# Altium integrated library ON Semi Signal Management Modems & Transceivers.IntLib: 97 symbols (part 3 of 5)
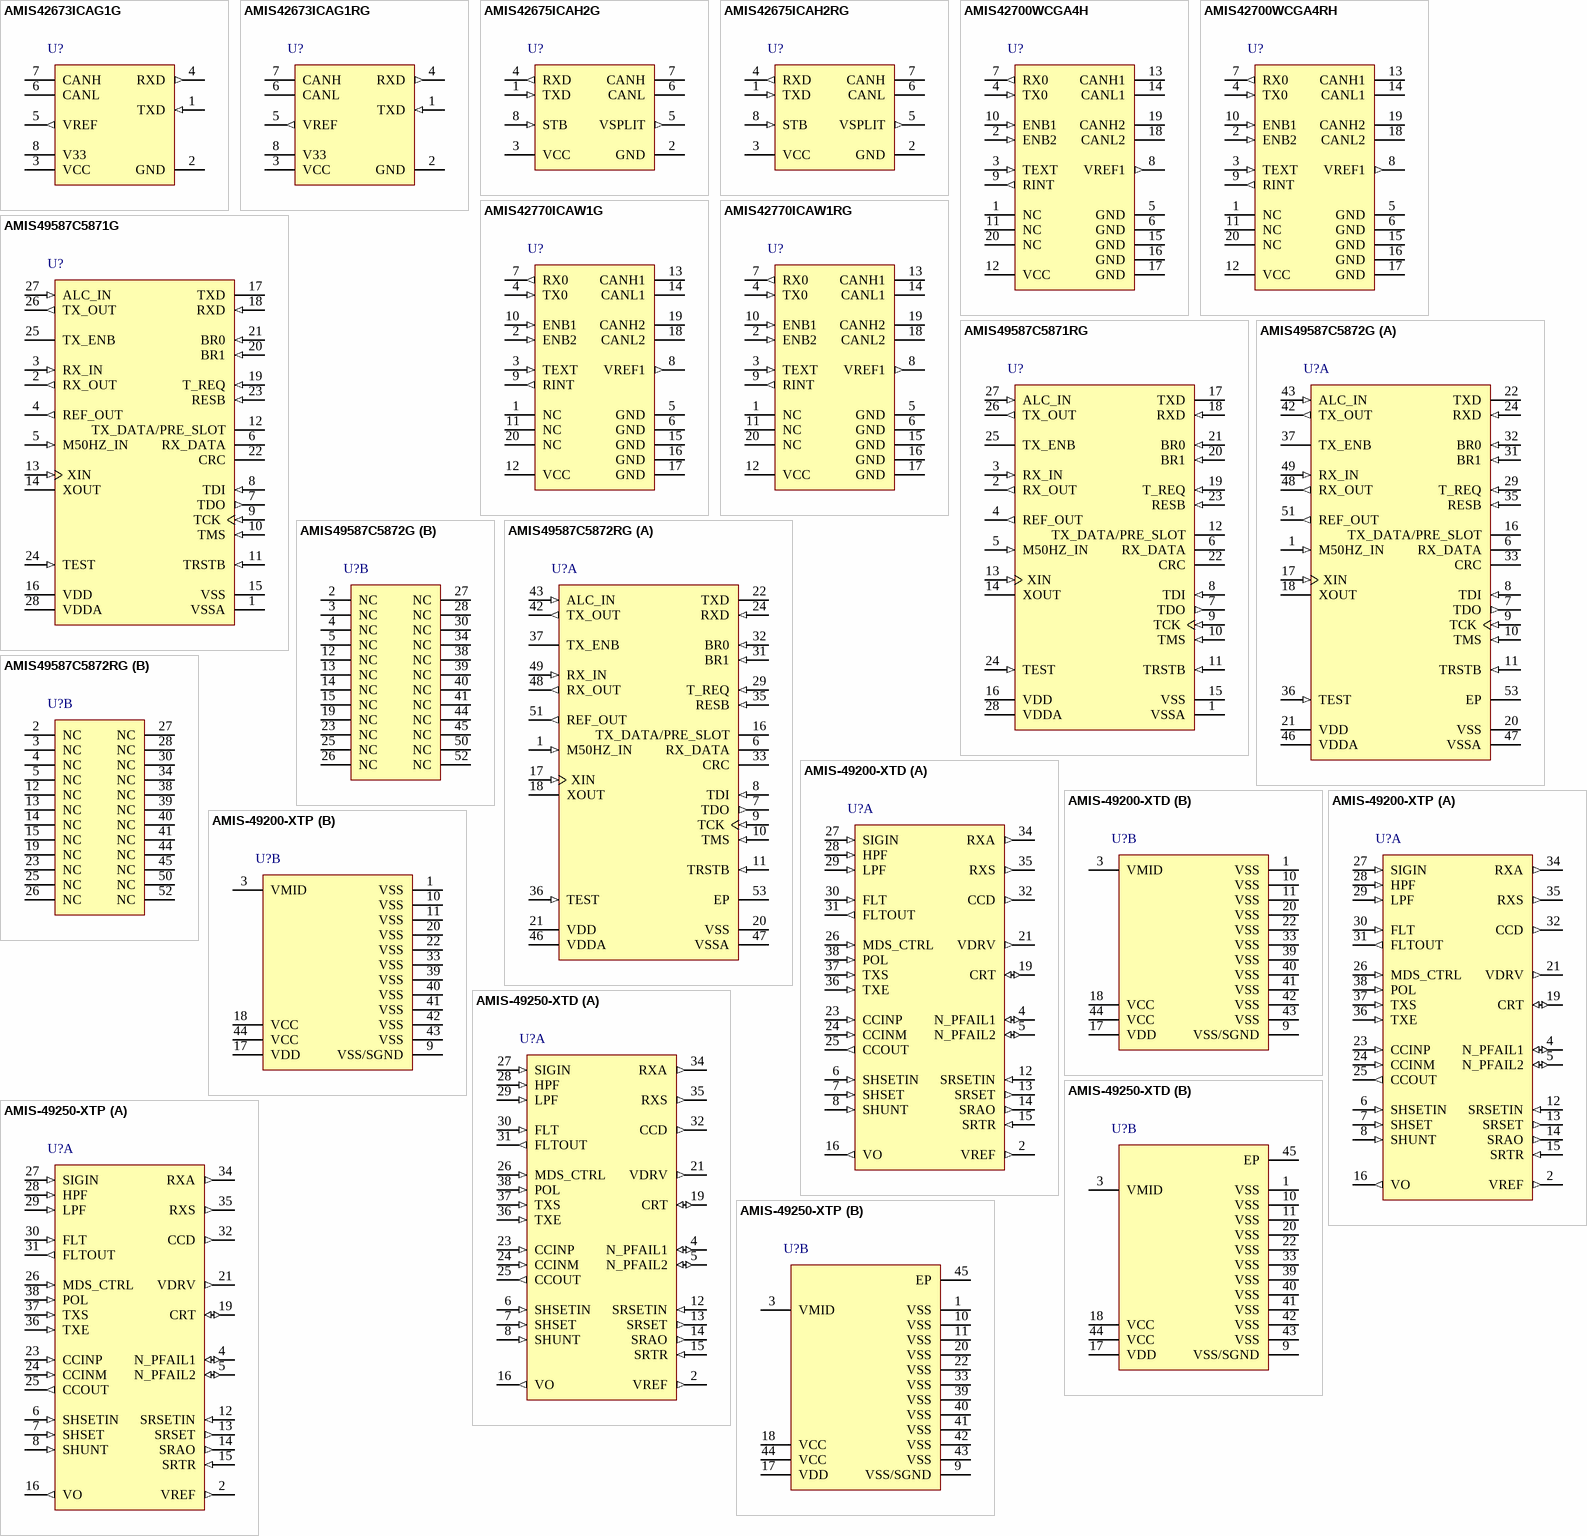
[diagram p6: symbols AMIS42673ICAG1G to AMIS-49250-XTP]

## AMIS-49250-XTD
designator U?
Fieldbus Physical Layer Medium Access Unit (MAU), 4.75 to 6.2 V, -40 to 85 degC, 44-Pin NQFP, Pb-Free, Tray; Manufacturer: On Semiconductor; PartNumber: AMIS-49250-XTD; Data Rate: 31.25 kbps; Number of Drivers: 1; VCC Max (V): 6.2; VCC Min (V): 4.75; DatasheetVersion: Rev. 7; PackageVersion: Rev. A, 11/2009; PackageReference: NQFP-44; PackageDescription: 44-Pin Quad Flat Package, Body 7 x 7 mm, Pitch 0.5 mm; Supplier 1: Digi-Key; Supplier Part Number 1: AMIS-49250-XTDOS-ND; Supplier 2: Mouser; Supplier Part Number 2: 863-AMIS-49250-XTD; Data Transmission Standard: MAU; Number of Receivers: 1; Packing: Tray; RoHS: TRUE; Mounting Technology: Surface Mount; ComponentLink1Description: Manufacturer URL; ComponentLink1URL: http://www.onsemi.com/; ComponentLink2Description: Datasheet; ComponentLink2URL: http://www.onsemi.com/pub_link/Collateral/AMIS-492X0-D.PDF; ComponentLink3Description: Package Specification; ComponentLink3URL: http://www.onsemi.com/pub_link/Collateral/560BD.PDF
footprint ONSC-NQFP-44-49250_N (QFN, 44-Leads, Body 7x7mm, Pitch 0.5mm, Thermal Pad 5.5x5.5mm, IPC Medium Density)
footprint ONSC-NQFP-44-49250_L (QFN, 44-Leads, Body 7x7mm, Pitch 0.5mm, Thermal Pad 5.5x5.5mm, IPC High Density)
footprint ONSC-NQFP-44-49250_M (QFN, 44-Leads, Body 7x7mm, Pitch 0.5mm, Thermal Pad 5.5x5.5mm, IPC Low Density)
part A pins: 2 VREF (out) "Internal bandgap voltage (1.18V)", 4 N_PFAIL1 (io) "Power fail alarm at VCC input. This pin is an open-drain output of negative logic.", 5 N_PFAIL2 (io) "Power fail alarm at VDD input. This pin is an open-drain output of negative logic.", 6 SHSETIN (in) "Feedback (non-inverting) input for the shunt regulator", 7 SHSET (in) "Divided voltage of VCC input. Feeding this voltage to SHSETIN pin results in 5V voltage at VCC.", 8 SHUNT (in) "Control pin of the shunt regulator. Its sink current (25mA max) is controlled so that the voltage at SHSETIN is equal to VREF (1.18V).", 12 SRSETIN (in) "Feedback (inverting) input for the series regulator. The series regulator controls its output (SRAO) to make this input voltage is equal to VREF (1.18V).", 13 SRSET (out) "Divided voltage of VO output. Feeding this voltage into SRSETIN pin results in 3V at VO pin.", 14 SRAO (out) "Output pin of an operational amplifier for the series regulator", 15 SRTR (in) "Gate of a PMOS transistor for the series regulator", 16 VO (out) "Output pin of the series regulator (20mA max)", 19 CRT (io) "Current integration to limit output slew rate", 21 VDRV (out) "Output of an operational amplifier for slew rate control. This signal can be fed to current driver.", 23 CCINP (in) "Non-inverting input of an operational amplifier for transmission current driver", 24 CCINM (in) "Inverting input of an operational amplifier for transmission current driver", 25 CCOUT (out) "Output of an operational amplifier for transmission current driver", 26 MDS_CTRL (in) "For POL = VDD MDS_CTRL should = VSS.For POL = VSS MDS_CTRL can be tied to VDD or used as a not reset to control when transmit communications will be enabled", 27 SIGIN (in) "Input pin of the band-pass filter. This pin is connected to VMID bias level with 270K resistor.", 28 HPF (in) "Feedback signal of high-pass filter. This pin is connected to the output of an op-amp for high pass filter with 75K resistor.", 29 LPF (in) "Non-inverting input of an operational amplifier for the low-pass filter", 30 FLT (in) "Input pin of low-pass filter for feedback. This pin is connected to the output of the high-pass filter through 20kohm and the non-inverting input of the low-pass filter through 54kohm resisters.", 31 FLTOUT (out) "Output of the operational amplifier for the low-pass filter. This signal is internally connected to non-inverting input to form a voltage-follower.", 32 CCD (out) "Current integration (for carrier detect circuit)", 34 RXA (out) "MDS-MAU interface signal for received signal activity. This pin is a push-pull output.", 35 RXS (out) "MDS-MAU interface signal for received signal. This pin is a push-pull output.", 36 TXE (in) "MDS-MAU interface signal for enable signal transmission (Schmitt Trigger input)", 37 TXS (in) "MDS-MAU interface signal for signal to be transmitted (Schmitt Trigger input)", 38 POL (in) "Selects polarity of TxE input. When this pin is connected to GND, TxE is active high. When this pin is connected to VDD, TxE is active low."
part B pins: 1 VSS (power) "Connect to ground", 3 VMID (power) "2V bias voltage for AC signals", 9 VSS/SGND (power) "The current absorbed by SHUNT pin (25mA max) is fed to this pin, which must be connected to the ground level", 10 VSS (power) "Ground", 11 VSS (power) "Ground", 17 VDD (power) "Supply voltage input for digital block", 18 VCC (power) "Analog supply voltage", 20 VSS (power) "Ground", 22 VSS (power) "Ground", 33 VSS (power) "Ground", 39 VSS (power) "Ground", 40 VSS (power) "Ground", 41 VSS (power) "Connect to ground", 42 VSS (power) "Connect to ground", 43 VSS (power) "Connect to ground", 44 VCC (power) "Analog supply voltage", 45 EP

## AMIS-49250-XTP
designator U?
Fieldbus Physical Layer Medium Access Unit (MAU), 4.75 to 6.2 V, -40 to 85 degC, 44-Pin NQFP, Pb-Free, Tape and Reel; Manufacturer: On Semiconductor; PartNumber: AMIS-49250-XTP; Data Rate: 31.25 kbps; Number of Drivers: 1; VCC Max (V): 6.2; VCC Min (V): 4.75; DatasheetVersion: Rev. 7; PackageVersion: Rev. A, 11/2009; PackageReference: NQFP-44; PackageDescription: 44-Pin Quad Flat Package, Body 7 x 7 mm, Pitch 0.5 mm; Supplier 1: Digi-Key; Supplier Part Number 1: AMIS-49250-XTP-ND; Supplier 2: Mouser; Supplier Part Number 2: 863-AMIS-49250-XTP; Data Transmission Standard: MAU; Number of Receivers: 1; Packing: Tape and Reel; RoHS: TRUE; Mounting Technology: Surface Mount; ComponentLink1Description: Manufacturer URL; ComponentLink1URL: http://www.onsemi.com/; ComponentLink2Description: Datasheet; ComponentLink2URL: http://www.onsemi.com/pub_link/Collateral/AMIS-492X0-D.PDF; ComponentLink3Description: Package Specification; ComponentLink3URL: http://www.onsemi.com/pub_link/Collateral/560BD.PDF
footprint ONSC-NQFP-44-49250_N (QFN, 44-Leads, Body 7x7mm, Pitch 0.5mm, Thermal Pad 5.5x5.5mm, IPC Medium Density)
footprint ONSC-NQFP-44-49250_L (QFN, 44-Leads, Body 7x7mm, Pitch 0.5mm, Thermal Pad 5.5x5.5mm, IPC High Density)
footprint ONSC-NQFP-44-49250_M (QFN, 44-Leads, Body 7x7mm, Pitch 0.5mm, Thermal Pad 5.5x5.5mm, IPC Low Density)
part A pins: 2 VREF (out) "Internal bandgap voltage (1.18V)", 4 N_PFAIL1 (io) "Power fail alarm at VCC input. This pin is an open-drain output of negative logic.", 5 N_PFAIL2 (io) "Power fail alarm at VDD input. This pin is an open-drain output of negative logic.", 6 SHSETIN (in) "Feedback (non-inverting) input for the shunt regulator", 7 SHSET (in) "Divided voltage of VCC input. Feeding this voltage to SHSETIN pin results in 5V voltage at VCC.", 8 SHUNT (in) "Control pin of the shunt regulator. Its sink current (25mA max) is controlled so that the voltage at SHSETIN is equal to VREF (1.18V).", 12 SRSETIN (in) "Feedback (inverting) input for the series regulator. The series regulator controls its output (SRAO) to make this input voltage is equal to VREF (1.18V).", 13 SRSET (out) "Divided voltage of VO output. Feeding this voltage into SRSETIN pin results in 3V at VO pin.", 14 SRAO (out) "Output pin of an operational amplifier for the series regulator", 15 SRTR (in) "Gate of a PMOS transistor for the series regulator", 16 VO (out) "Output pin of the series regulator (20mA max)", 19 CRT (io) "Current integration to limit output slew rate", 21 VDRV (out) "Output of an operational amplifier for slew rate control. This signal can be fed to current driver.", 23 CCINP (in) "Non-inverting input of an operational amplifier for transmission current driver", 24 CCINM (in) "Inverting input of an operational amplifier for transmission current driver", 25 CCOUT (out) "Output of an operational amplifier for transmission current driver", 26 MDS_CTRL (in) "For POL = VDD MDS_CTRL should = VSS.For POL = VSS MDS_CTRL can be tied to VDD or used as a not reset to control when transmit communications will be enabled", 27 SIGIN (in) "Input pin of the band-pass filter. This pin is connected to VMID bias level with 270K resistor.", 28 HPF (in) "Feedback signal of high-pass filter. This pin is connected to the output of an op-amp for high pass filter with 75K resistor.", 29 LPF (in) "Non-inverting input of an operational amplifier for the low-pass filter", 30 FLT (in) "Input pin of low-pass filter for feedback. This pin is connected to the output of the high-pass filter through 20kohm and the non-inverting input of the low-pass filter through 54kohm resisters.", 31 FLTOUT (out) "Output of the operational amplifier for the low-pass filter. This signal is internally connected to non-inverting input to form a voltage-follower.", 32 CCD (out) "Current integration (for carrier detect circuit)", 34 RXA (out) "MDS-MAU interface signal for received signal activity. This pin is a push-pull output.", 35 RXS (out) "MDS-MAU interface signal for received signal. This pin is a push-pull output.", 36 TXE (in) "MDS-MAU interface signal for enable signal transmission (Schmitt Trigger input)", 37 TXS (in) "MDS-MAU interface signal for signal to be transmitted (Schmitt Trigger input)", 38 POL (in) "Selects polarity of TxE input. When this pin is connected to GND, TxE is active high. When this pin is connected to VDD, TxE is active low."
part B pins: 1 VSS (power) "Connect to ground", 3 VMID (power) "2V bias voltage for AC signals", 9 VSS/SGND (power) "The current absorbed by SHUNT pin (25mA max) is fed to this pin, which must be connected to the ground level", 10 VSS (power) "Ground", 11 VSS (power) "Ground", 17 VDD (power) "Supply voltage input for digital block", 18 VCC (power) "Analog supply voltage", 20 VSS (power) "Ground", 22 VSS (power) "Ground", 33 VSS (power) "Ground", 39 VSS (power) "Ground", 40 VSS (power) "Ground", 41 VSS (power) "Connect to ground", 42 VSS (power) "Connect to ground", 43 VSS (power) "Connect to ground", 44 VCC (power) "Analog supply voltage", 45 EP

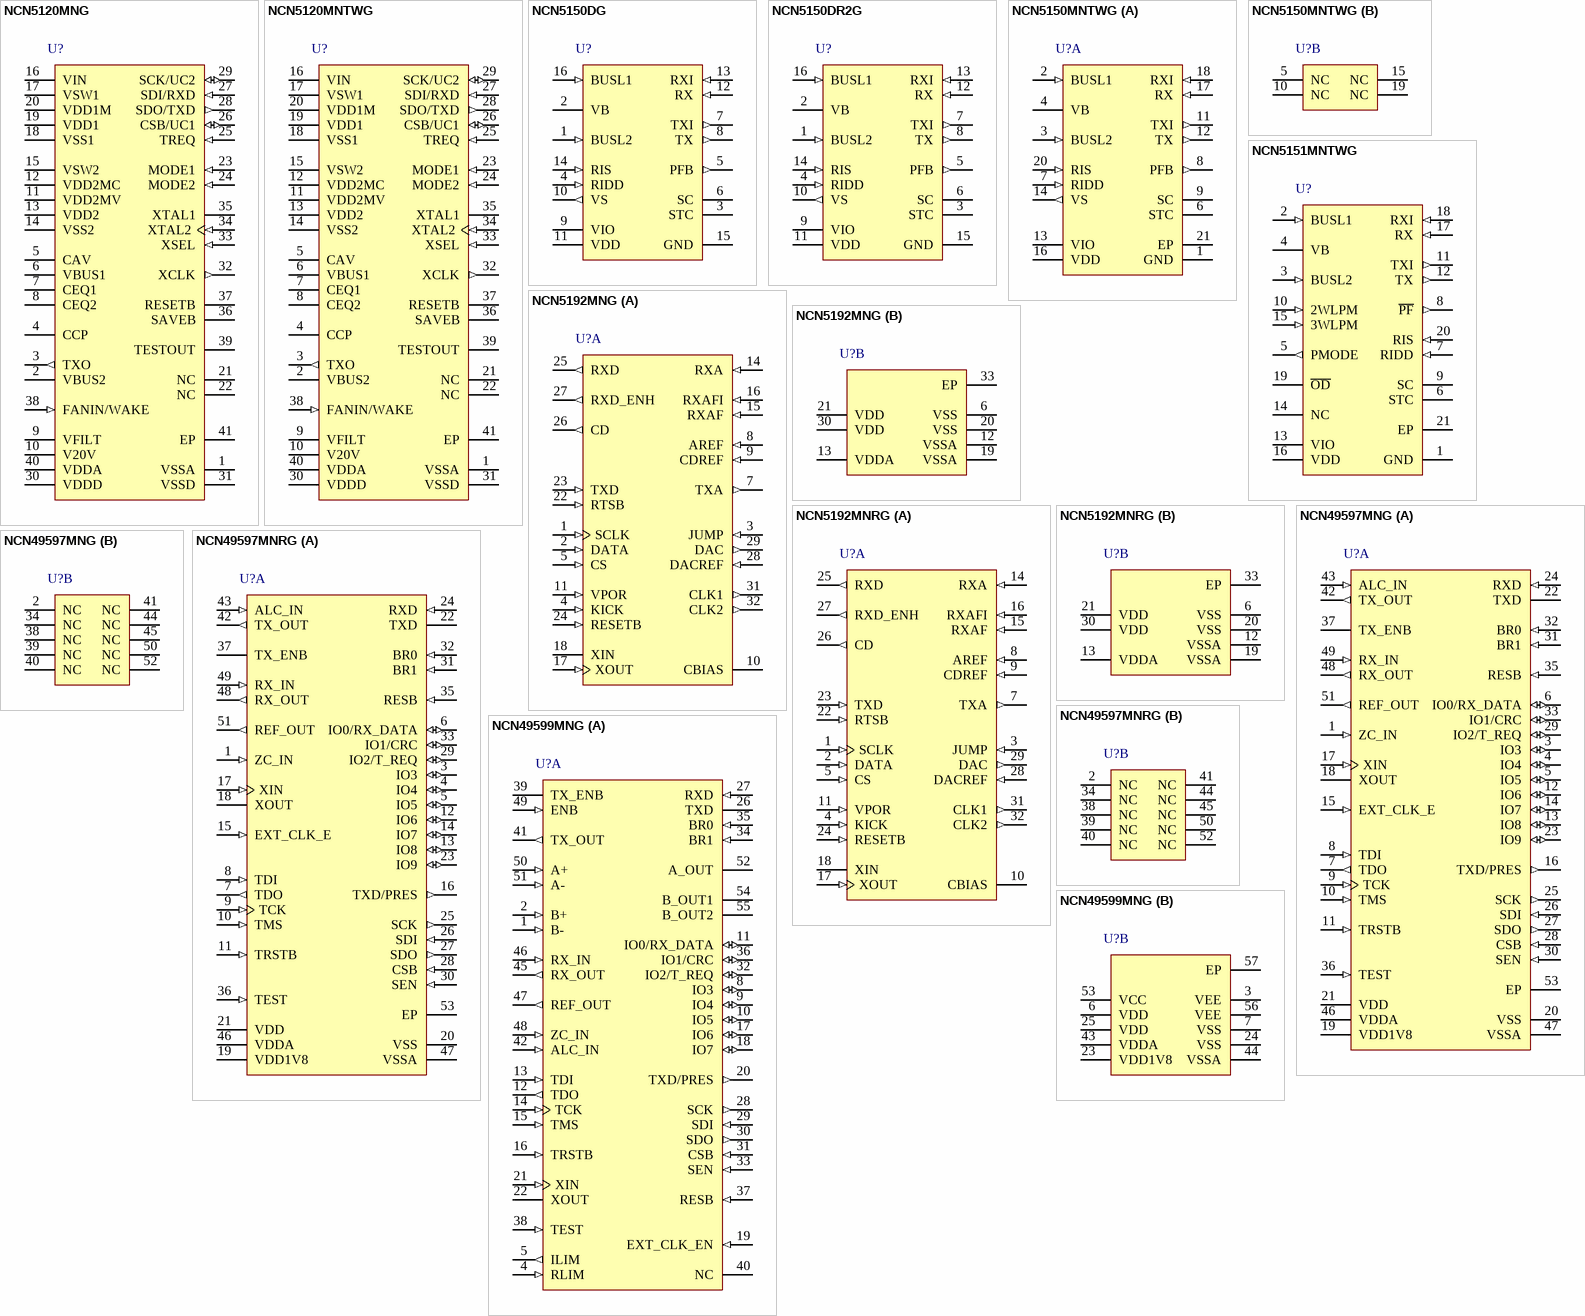
[diagram p2: symbols NCN5120MNG to NCN49599MNG]

## NCN5120MNG
designator U?
Transceiver for KNX Twisted Pair Networks, 3.13 to 3.47 V, -25 to 85 degC, 40-Pin QFN, Pb-Free, Tube; Manufacturer: On Semiconductor; PartNumber: NCN5120MNG; Data Rate: 9600 baud; Number of Drivers: 1; VCC Max (V): 3.47; VCC Min (V): 3.13; DatasheetVersion: Rev. 4; PackageVersion: Rev. O, 07/2008; PackageReference: QFN-40-485AU-01; PackageDescription: 40-Pin Quad Flat No-Lead, Body 6 x 6 mm, Pitch 0.5 mm; Supplier 1: Newark; Supplier Part Number 1: 53W8401; Supplier 2: Mouser; Supplier Part Number 2: 863-NCN5120MNG; Data Transmission Standard: KNX; Number of Receivers: 1; Packing: Tube; RoHS: TRUE; Mounting Technology: Surface Mount; ComponentLink1Description: Manufacturer URL; ComponentLink1URL: http://www.onsemi.com/; ComponentLink2Description: Datasheet; ComponentLink2URL: http://www.onsemi.com/pub_link/Collateral/NCN5120-D.PDF; ComponentLink3Description: Package Specification; ComponentLink3URL: http://www.onsemi.com/pub_link/Collateral/485AU.PDF
footprint ONSC-QFN-40-485AU-01_V (QFN, 40-Leads, Body 6x6mm, Pitch 0.5mm, Thermal Pad 3.32x3.32mm)
pins: 1 VSSA (power) "Analog Supply Voltage Ground", 2 VBUS2 (power) "Ground for KNX Transmitter", 3 TXO (out) "KNX Transmitter Output", 4 CCP "AC coupling external capacitor connection", 5 CAV "Capacitor connection to average bus DC voltage", 6 VBUS1 (power) "KNX power supply input", 7 CEQ1 "Capacitor connection 1 for defining equalization pulse", 8 CEQ2 "Capacitor connection 2 for defining equalization pulse", 9 VFILT (power) "Filtered bus voltage", 10 V20V (power) "20V supply output", 11 VDD2MV (power) "Voltage monitor of Voltage Regulator 2", 12 VDD2MC (power) "Current monitor input 1 of Voltage Regulator 2", 13 VDD2 (power) "Current monitor input 2 of Voltage Regulator 2", 14 VSS2 (power) "Voltage Regulator 2 Ground", 15 VSW2 (power) "Switch output of Voltage Regulator 2", 16 VIN (power) "Voltage Regulator 1 and 2 Power Supply Input", 17 VSW1 (power) "Switch output of Voltage Regulator 1", 18 VSS1 (power) "Voltage Regulator 1 Ground", 19 VDD1 (power) "Current Input 2 and Voltage Monitor Input of Voltage Regulator 1", 20 VDD1M (power) "Current Monitor Input 1 of Voltage Monitor 1", 21 NC "Not connected (do not connect)", 22 NC "Not connected (do not connect)", 23 MODE1 (in) "Mode Selection Input 1", 24 MODE2 (in) "Mode Selection Input 2", 25 TREQ (in) "Transmit Request Input", 26 CSB/UC1 (io) "Chip Select Output (SPI) or Configuration Input (UART)", 27 SDI/RXD (in) "Serial Data Input (SPI) or Receive Input (UART)", 28 SDO/TXD (out) "Serial Data Output (SPI) or Transmit Output (UART)", 29 SCK/UC2 (io) "Serial Clock Output (SPI) or Configuration Input (UART)", 30 VDDD (power) "Digital Supply Voltage Input", 31 VSSD (power) "Digital Supply Voltage Ground", 32 XCLK (out) "Oscillator Clock Output", 33 XSEL (in) "Clock Selection (Quartz or Digital Clock)", 34 XTAL2 (in) "Clock Generator Output (Quartz) or Input (Digital Clock)", 35 XTAL1 "Clock Generator Input (Quartz)", 36 SAVEB (oc) "Save Signal (open drain with pull?up)", 37 RESETB (oc) "Reset Signal (open drain with pull?up)", 38 FANIN/WAKE (in) "Fan?In and Wake?Up Input", 39 TESTOUT "Test Output (do not connect)", 40 VDDA (power) "Analog Supply Voltage Input", 41 EP (power)

## NCN5120MNTWG
designator U?
Transceiver for KNX Twisted Pair Networks, 3.13 to 3.47 V, -25 to 85 degC, 40-Pin QFN, Pb-Free, Tape and Reel; Manufacturer: On Semiconductor; PartNumber: NCN5120MNTWG; Data Rate: 9600 baud; Number of Drivers: 1; VCC Max (V): 3.47; VCC Min (V): 3.13; DatasheetVersion: Rev. 4; PackageVersion: Rev. O, 07/2008; PackageReference: QFN-40-485AU-01; PackageDescription: 40-Pin Quad Flat No-Lead, Body 6 x 6 mm, Pitch 0.5 mm; Supplier 1: Newark; Supplier Part Number 1: 53W8402; Supplier 2: Mouser; Supplier Part Number 2: 863-NCN5120MNTWG; Data Transmission Standard: KNX; Number of Receivers: 1; Packing: Tape and Reel; RoHS: TRUE; Mounting Technology: Surface Mount; ComponentLink1Description: Manufacturer URL; ComponentLink1URL: http://www.onsemi.com/; ComponentLink2Description: Datasheet; ComponentLink2URL: http://www.onsemi.com/pub_link/Collateral/NCN5120-D.PDF; ComponentLink3Description: Package Specification; ComponentLink3URL: http://www.onsemi.com/pub_link/Collateral/485AU.PDF
footprint ONSC-QFN-40-485AU-01_V (QFN, 40-Leads, Body 6x6mm, Pitch 0.5mm, Thermal Pad 3.32x3.32mm)
pins: 1 VSSA (power) "Analog Supply Voltage Ground", 2 VBUS2 (power) "Ground for KNX Transmitter", 3 TXO (out) "KNX Transmitter Output", 4 CCP "AC coupling external capacitor connection", 5 CAV "Capacitor connection to average bus DC voltage", 6 VBUS1 (power) "KNX power supply input", 7 CEQ1 "Capacitor connection 1 for defining equalization pulse", 8 CEQ2 "Capacitor connection 2 for defining equalization pulse", 9 VFILT (power) "Filtered bus voltage", 10 V20V (power) "20V supply output", 11 VDD2MV (power) "Voltage monitor of Voltage Regulator 2", 12 VDD2MC (power) "Current monitor input 1 of Voltage Regulator 2", 13 VDD2 (power) "Current monitor input 2 of Voltage Regulator 2", 14 VSS2 (power) "Voltage Regulator 2 Ground", 15 VSW2 (power) "Switch output of Voltage Regulator 2", 16 VIN (power) "Voltage Regulator 1 and 2 Power Supply Input", 17 VSW1 (power) "Switch output of Voltage Regulator 1", 18 VSS1 (power) "Voltage Regulator 1 Ground", 19 VDD1 (power) "Current Input 2 and Voltage Monitor Input of Voltage Regulator 1", 20 VDD1M (power) "Current Monitor Input 1 of Voltage Monitor 1", 21 NC "Not connected (do not connect)", 22 NC "Not connected (do not connect)", 23 MODE1 (in) "Mode Selection Input 1", 24 MODE2 (in) "Mode Selection Input 2", 25 TREQ (in) "Transmit Request Input", 26 CSB/UC1 (io) "Chip Select Output (SPI) or Configuration Input (UART)", 27 SDI/RXD (in) "Serial Data Input (SPI) or Receive Input (UART)", 28 SDO/TXD (out) "Serial Data Output (SPI) or Transmit Output (UART)", 29 SCK/UC2 (io) "Serial Clock Output (SPI) or Configuration Input (UART)", 30 VDDD (power) "Digital Supply Voltage Input", 31 VSSD (power) "Digital Supply Voltage Ground", 32 XCLK (out) "Oscillator Clock Output", 33 XSEL (in) "Clock Selection (Quartz or Digital Clock)", 34 XTAL2 (in) "Clock Generator Output (Quartz) or Input (Digital Clock)", 35 XTAL1 "Clock Generator Input (Quartz)", 36 SAVEB (oc) "Save Signal (open drain with pull?up)", 37 RESETB (oc) "Reset Signal (open drain with pull?up)", 38 FANIN/WAKE (in) "Fan?In and Wake?Up Input", 39 TESTOUT "Test Output (do not connect)", 40 VDDA (power) "Analog Supply Voltage Input", 41 EP (power)

## NCN5150DG
designator U?
Wired M-BUS Slave Transceiver, -40 to 85 degC, 16-Pin SOIC, Pb-Free, Tube; Manufacturer: On Semiconductor; PartNumber: NCN5150DG; Data Rate: 38400 baud; Number of Drivers: 1; DatasheetVersion: Rev. 2; PackageVersion: Rev. K, 12/2006; PackageReference: SOIC-16-751B-05; PackageDescription: 16-Pin Small Outline Integrated Circuit, Body 9.9 x 3.9 mm, Pitch 1.27 mm; Supplier 1: Digi-Key; Supplier Part Number 1: NCN5150DGOS-ND; Supplier 2: Farnell; Supplier Part Number 2: 2382440; Supplier 3: Newark; Supplier Part Number 3: 37X6665; Supplier 4: Newark; Supplier Part Number 4: 72W2166; Supplier 5: Mouser; Supplier Part Number 5: 863-NCN5150DG; Data Transmission Standard: M-BUS; Number of Receivers: 1; Packing: Tube; RoHS: TRUE; Mounting Technology: Surface Mount; ComponentLink1Description: Manufacturer URL; ComponentLink1URL: http://www.onsemi.com/; ComponentLink2Description: Datasheet; ComponentLink2URL: http://www.onsemi.com/pub_link/Collateral/NCN5150-D.PDF; ComponentLink3Description: Package Specification; ComponentLink3URL: http://www.onsemi.com/pub_link/Collateral/751B-05.PDF
footprint ONSC-SOIC-16-751B-05_V (SOIC, 16-Leads, Body 10x4mm, Pitch 1.27mm)
pins: 1 BUSL2 (in) "MBUS line. Connect to bus through 220 ohm series resistors. Connections are polarity independent", 2 VB (power) "Rectified bus voltage", 3 STC "Storage capacitor pin. Connect to bulk storage capacitor (minimum 10 uF, maximum 330 uF?2,700 uF ? see Table 9)", 4 RIDD (in) "Mark current adjustment pin. Connect to programming resistor", 5 PFB (out) "Power Fail, active low", 6 SC "Mark bus voltage level storage capacitor pin. Connect to ceramic capacitor (typically 220 nF)", 7 TXI (out) "UART Data output (inverted)", 8 TX (out) "UART Data output", 9 VIO (power) "I/O pins (RX, RXI, TX, TXI, PFb) high level voltage", 10 VS (out) "Gate driver for PMOS switch between bus powered operation and external power supply", 11 VDD (power) "Voltage regulator output. Connect to minimum 1 uF decoupling capacitor", 12 RX (in) "UART Data input", 13 RXI (in) "UART Data input (inverted)", 14 RIS (in) "Modulation current adjustment pin", 15 GND (power) "Ground", 16 BUSL1 (in) "MBUS line. Connect to bus through 220 ohm series resistors. Connections are polarity independent"

## NCN5150DR2G
designator U?
Wired M-BUS Slave Transceiver, -40 to 85 degC, 16-Pin SOIC, Pb-Free, Tape and Reel; Manufacturer: On Semiconductor; PartNumber: NCN5150DR2G; Data Rate: 38400 baud; Number of Drivers: 1; DatasheetVersion: Rev. 2; PackageVersion: Rev. K, 12/2006; PackageReference: SOIC-16-751B-05; PackageDescription: 16-Pin Small Outline Integrated Circuit, Body 9.9 x 3.9 mm, Pitch 1.27 mm; Supplier 1: Digi-Key; Supplier Part Number 1: NCN5150DR2GOSTR-ND; Supplier 2: Digi-Key; Supplier Part Number 2: NCN5150DR2GOSCT-ND; Supplier 3: Digi-Key; Supplier Part Number 3: NCN5150DR2GOSDKR-ND; Supplier 4: Newark; Supplier Part Number 4: 72W2167; Supplier 5: Mouser; Supplier Part Number 5: 863-NCN5150DR2G; Data Transmission Standard: M-BUS; Number of Receivers: 1; Packing: Tape and Reel; RoHS: TRUE; Mounting Technology: Surface Mount; ComponentLink1Description: Manufacturer URL; ComponentLink1URL: http://www.onsemi.com/; ComponentLink2Description: Datasheet; ComponentLink2URL: http://www.onsemi.com/pub_link/Collateral/NCN5150-D.PDF; ComponentLink3Description: Package Specification; ComponentLink3URL: http://www.onsemi.com/pub_link/Collateral/751B-05.PDF
footprint ONSC-SOIC-16-751B-05_V (SOIC, 16-Leads, Body 10x4mm, Pitch 1.27mm)
pins: 1 BUSL2 (in) "MBUS line. Connect to bus through 220 ohm series resistors. Connections are polarity independent", 2 VB (power) "Rectified bus voltage", 3 STC "Storage capacitor pin. Connect to bulk storage capacitor (minimum 10 uF, maximum 330 uF?2,700 uF ? see Table 9)", 4 RIDD (in) "Mark current adjustment pin. Connect to programming resistor", 5 PFB (out) "Power Fail, active low", 6 SC "Mark bus voltage level storage capacitor pin. Connect to ceramic capacitor (typically 220 nF)", 7 TXI (out) "UART Data output (inverted)", 8 TX (out) "UART Data output", 9 VIO (power) "I/O pins (RX, RXI, TX, TXI, PFb) high level voltage", 10 VS (out) "Gate driver for PMOS switch between bus powered operation and external power supply", 11 VDD (power) "Voltage regulator output. Connect to minimum 1 uF decoupling capacitor", 12 RX (in) "UART Data input", 13 RXI (in) "UART Data input (inverted)", 14 RIS (in) "Modulation current adjustment pin", 15 GND (power) "Ground", 16 BUSL1 (in) "MBUS line. Connect to bus through 220 ohm series resistors. Connections are polarity independent"

## NCN5150MNTWG
designator U?
Wired M-BUS Slave Transceiver, -40 to 85 degC, 20-Pin QFN, Pb-Free, Tape and Reel; Manufacturer: On Semiconductor; PartNumber: NCN5150MNTWG; Data Rate: 38400 baud; Number of Drivers: 1; DatasheetVersion: Rev. 2; PackageVersion: Rev. B, 10/2010; PackageReference: QFN-20-485E-01; PackageDescription: 20-Pin Quad Flat No-Lead, Body 4 x 4 mm, Pitch 0.5 mm; Supplier 1: Digi-Key; Supplier Part Number 1: NCN5150MNTWGOSTR-ND; Supplier 2: Digi-Key; Supplier Part Number 2: NCN5150MNTWGOSCT-ND; Supplier 3: Digi-Key; Supplier Part Number 3: NCN5150MNTWGOSDKR-ND; Supplier 4: Farnell; Supplier Part Number 4: 2382439; Supplier 5: Newark; Supplier Part Number 5: 37X6666; Supplier 6: Newark; Supplier Part Number 6: 72W2169; Supplier 7: Mouser; Supplier Part Number 7: 863-NCN5150MNTWG; Data Transmission Standard: M-BUS; Number of Receivers: 1; Packing: Tape and Reel; RoHS: TRUE; Mounting Technology: Surface Mount; ComponentLink1Description: Manufacturer URL; ComponentLink1URL: http://www.onsemi.com/; ComponentLink2Description: Datasheet; ComponentLink2URL: http://www.onsemi.com/pub_link/Collateral/NCN5150-D.PDF; ComponentLink3Description: Package Specification; ComponentLink3URL: http://www.onsemi.com/pub_link/Collateral/485E-01.PDF
footprint ONSC-QFN-20-485E-01_V (QFN, 20-Leads, Body 4x4mm, Pitch 0.5mm, Thermal Pad 2.88x2.88mm)
part A pins: 1 GND (power) "Ground", 2 BUSL1 (in) "MBUS line. Connect to bus through 220 ohm series resistors. Connections are polarity independent", 3 BUSL2 (in) "MBUS line. Connect to bus through 220 ohm series resistors. Connections are polarity independent", 4 VB (power) "Rectified bus voltage", 6 STC "Storage capacitor pin. Connect to bulk storage capacitor (minimum 10 uF, maximum 330 uF-2,700 uF - see Table 9)", 7 RIDD (in) "Mark current adjustment pin. Connect to programming resistor", 8 PFB (out) "Power Fail, active low", 9 SC "Mark bus voltage level storage capacitor pin. Connect to ceramic capacitor (typically 220 nF)", 11 TXI (out) "UART Data output (inverted)", 12 TX (out) "UART Data output", 13 VIO (power) "I/O pins (RX, RXI, TX, TXI, PFb) high level voltage", 14 VS (out) "Gate driver for PMOS switch between bus powered operation and external power supply", 16 VDD (power) "Voltage regulator output. Connect to minimum 1 uF decoupling capacitor", 17 RX (in) "UART Data input", 18 RXI (in) "UART Data input (inverted)", 20 RIS (in) "Modulation current adjustment pin", 21 EP (power) "Exposed Pad. Tie to GND"
part B pins: 5 NC "Not connected pins. Tie to GND", 10 NC "Not connected pins. Tie to GND", 15 NC "Not connected pins. Tie to GND", 19 NC "Not connected pins. Tie to GND"

## NCN5151MNTWG
designator U?
Wired M-BUS Slave Transceiver with Low Power Mode Support, -40 to 85 degC, 20-Pin QFN, Pb-Free, Tape and Reel; Manufacturer: On Semiconductor; PartNumber: NCN5151MNTWG; Data Rate: 38400 baud; Number of Drivers: 1; DatasheetVersion: Rev. 1; PackageVersion: Rev. B, 10/2010; PackageReference: QFN-20-485E-01; PackageDescription: 20-Pin Quad Flat No-Lead, Body 4 x 4 mm, Pitch 0.5 mm; Data Transmission Standard: M-BUS; Number of Receivers: 1; Packing: Tape and Reel; RoHS: TRUE; Mounting Technology: Surface Mount; ComponentLink1Description: Manufacturer URL; ComponentLink1URL: http://www.onsemi.com/; ComponentLink2Description: Datasheet; ComponentLink2URL: http://www.onsemi.com/pub_link/Collateral/NCN5151-D.PDF; ComponentLink3Description: Package Specification; ComponentLink3URL: http://www.onsemi.com/pub_link/Collateral/485E-01.PDF
footprint ONSC-QFN-20-485E-01_V (QFN, 20-Leads, Body 4x4mm, Pitch 0.5mm, Thermal Pad 2.88x2.88mm)
pins: 1 GND (power) "Ground", 2 BUSL1 (in) "Bus line. Connect to bus through series resistors. Connections are polarity independent.", 3 BUSL2 (in) "Bus line. Connect to bus through series resistors. Connections are polarity independent.", 4 VB (power) "Rectified bus voltage", 5 PMODE (out) "Power Mode output indicating the voltage level on VB pin", 6 STC "Storage capacitor pin. Connect to bulk storage capacitor (typically 100 uF - 470 uF,minimum 10 uF).", 7 RIDD (in) "Mark current adjustment pin. Connect to programming resistor.", 8 ~{PF} (out) "Power Fail, active low (disabled in low power mode)", 9 SC "Mark bus voltage level storage capacitor pin. Connect to ceramic capacitor (typically 220 nF).", 10 2WLPM (in) "2-Wire Low Power Mode selection input", 11 TXI (out) "UART Data output (inverted)", 12 TX (out) "UART Data output", 13 VIO (power) "I/O pins (RX, RXI, TX, TXI, PF) high level voltage", 14 NC "Leave this pin floating.", 15 3WLPM (in) "3-Wire Low Power Mode selection input", 16 VDD (power) "Voltage regulator output. Connect to minimum 1 uF decoupling capacitor.", 17 RX (in) "UART Data input", 18 RXI (in) "UART Data input (inverted)", 19 ~{OD} (hiz) "Open Drain output (active low). Used for the slave to master communication in 3-Wire Low Power mode", 20 RIS (in) "Modulation current adjustment pin", 21 EP

## NCN5192MNG
designator U?
HART Modem, 3 to 5.5 V, -40 to 85 degC, 32-Pin QFN, Pb-Free, Tube; Manufacturer: On Semiconductor; PartNumber: NCN5192MNG; Data Rate: 1200 baud; Number of Drivers: 1; VCC Max (V): 5.5; VCC Min (V): 3; DatasheetVersion: Rev. 3; PackageVersion: Rev. O; PackageReference: QFN-32-488AM-01_O; PackageDescription: 32-Pin Quad Flat No-Lead, Body 5 x 5 mm, Pitch 0.5 mm; Supplier 1: Digi-Key; Supplier Part Number 1: NCN5192MNG-ND; Supplier 2: Newark; Supplier Part Number 2: 65T1415; Supplier 3: Mouser; Supplier Part Number 3: 863-NCN5192MNG; Data Transmission Standard: HART; Number of Receivers: 1; Packing: Tube; RoHS: TRUE; Mounting Technology: Surface Mount; ComponentLink1Description: Manufacturer URL; ComponentLink1URL: http://www.onsemi.com/; ComponentLink2Description: Datasheet; ComponentLink2URL: http://www.onsemi.com/pub_link/Collateral/NCN5192-D.PDF; ComponentLink3Description: Package Specification; ComponentLink3URL: http://www.onsemi.com/pub_link/Collateral/MC100EPT622-D.PDF
footprint ONSC-QFN-32-488AM-01_O_V (QFN, 32-Leads, Body 5x5mm, Pitch 0.5mm, Thermal Pad 3.2x3.2mm)
part A pins: 1 SCLK (in) "SPI Serial Clock", 2 DATA (in) "SPI Serial Data", 3 JUMP (in) "Sigma-Delta Modulator Alarm condition value", 4 KICK (in) "Watchdog kick", 5 CS (in) "SPI Serial Chip Select", 7 TXA (out) "Transmit Data Modulator output", 8 AREF (in) "Analog reference voltage", 9 CDREF (in) "Carrier detect reference voltage", 10 CBIAS "Comparator bias current", 11 VPOR (in) "POR measurement point", 14 RXA (in) "Receive Data Modulator input", 15 RXAF (in) "Analog receive filter input", 16 RXAFI (in) "Analog receive comparator input", 17 XOUT (in) "Crystal oscillator output", 18 XIN "Crystal oscillator input", 22 RTSB (in) "Request to send", 23 TXD (in) "Input transmit data, transmit HART data stream from microcontroller", 24 RESETB (in) "Reset all digital logic when low", 25 RXD (out) "Received demodulated HART data to microcontroller", 26 CD (out) "Carrier detect output", 27 RXD_ENH (out) "not[CD] or RxD", 28 DACREF (in) "Sigma-Delta Modulator Reference Voltage", 29 DAC (out) "Sigma-Delta Modulator Output", 31 CLK1 (out) "Programmable Clock Output 1", 32 CLK2 (out) "Programmable Clock Output 2"
part B pins: 6 VSS (power) "Ground", 12 VSSA (power) "Analog ground", 13 VDDA (power) "Analog supply voltage", 19 VSSA (power) "Analog ground", 20 VSS (power) "Ground", 21 VDD (power) "Digital supply voltage", 30 VDD (power) "Digital supply voltage", 33 EP

## NCN5192MNRG
designator U?
HART Modem, 3 to 5.5 V, -40 to 85 degC, 32-Pin QFN, Pb-Free, Tape and Reel; Manufacturer: On Semiconductor; PartNumber: NCN5192MNRG; Data Rate: 1200 baud; Number of Drivers: 1; VCC Max (V): 5.5; VCC Min (V): 3; DatasheetVersion: Rev. 3; PackageVersion: Rev. O; PackageReference: QFN-32-488AM-01_O; PackageDescription: 32-Pin Quad Flat No-Lead, Body 5 x 5 mm, Pitch 0.5 mm; Supplier 1: Digi-Key; Supplier Part Number 1: NCN5192MNRG-ND; Supplier 2: Mouser; Supplier Part Number 2: 863-NCN5192MNRG; Data Transmission Standard: HART; Number of Receivers: 1; Packing: Tape and Reel; RoHS: TRUE; Mounting Technology: Surface Mount; ComponentLink1Description: Manufacturer URL; ComponentLink1URL: http://www.onsemi.com/; ComponentLink2Description: Datasheet; ComponentLink2URL: http://www.onsemi.com/pub_link/Collateral/NCN5192-D.PDF; ComponentLink3Description: Package Specification; ComponentLink3URL: http://www.onsemi.com/pub_link/Collateral/MC100EPT622-D.PDF
footprint ONSC-QFN-32-488AM-01_O_V (QFN, 32-Leads, Body 5x5mm, Pitch 0.5mm, Thermal Pad 3.2x3.2mm)
part A pins: 1 SCLK (in) "SPI Serial Clock", 2 DATA (in) "SPI Serial Data", 3 JUMP (in) "Sigma-Delta Modulator Alarm condition value", 4 KICK (in) "Watchdog kick", 5 CS (in) "SPI Serial Chip Select", 7 TXA (out) "Transmit Data Modulator output", 8 AREF (in) "Analog reference voltage", 9 CDREF (in) "Carrier detect reference voltage", 10 CBIAS "Comparator bias current", 11 VPOR (in) "POR measurement point", 14 RXA (in) "Receive Data Modulator input", 15 RXAF (in) "Analog receive filter input", 16 RXAFI (in) "Analog receive comparator input", 17 XOUT (in) "Crystal oscillator output", 18 XIN "Crystal oscillator input", 22 RTSB (in) "Request to send", 23 TXD (in) "Input transmit data, transmit HART data stream from microcontroller", 24 RESETB (in) "Reset all digital logic when low", 25 RXD (out) "Received demodulated HART data to microcontroller", 26 CD (out) "Carrier detect output", 27 RXD_ENH (out) "not[CD] or RxD", 28 DACREF (in) "Sigma-Delta Modulator Reference Voltage", 29 DAC (out) "Sigma-Delta Modulator Output", 31 CLK1 (out) "Programmable Clock Output 1", 32 CLK2 (out) "Programmable Clock Output 2"
part B pins: 6 VSS (power) "Ground", 12 VSSA (power) "Analog ground", 13 VDDA (power) "Analog supply voltage", 19 VSSA (power) "Analog ground", 20 VSS (power) "Ground", 21 VDD (power) "Digital supply voltage", 30 VDD (power) "Digital supply voltage", 33 EP

## NCN49597MNG
designator U?
Power Line Carrier Modem, 3 to 3.6 V, -40 to 115 degC, 52-Pin QFN, Pb-Free, Tube; Manufacturer: On Semiconductor; PartNumber: NCN49597MNG; Data Transmission Standard: S-FSK; Number of Drivers: 1; VCC Max (V): 3.6; VCC Min (V): 3; DatasheetVersion: Rev. 1; PackageVersion: Rev. C, 02/2010; PackageReference: QFN-52-485M-01; PackageDescription: 52-Pin Quad Flat No-Lead, Body 8 x 8 mm, Pitch 0.5 mm; Number of Receivers: 1; Packing: Tube; RoHS: TRUE; Mounting Technology: Surface Mount; ComponentLink1Description: Manufacturer URL; ComponentLink1URL: http://www.onsemi.com/; ComponentLink2Description: Datasheet; ComponentLink2URL: http://www.onsemi.com/pub_link/Collateral/NCN49597-D.PDF; ComponentLink3Description: Package Specification; ComponentLink3URL: http://www.onsemi.com/pub_link/Collateral/485M.PDF
footprint ONSC-QFN-52-485M-01_V (QFN, 52-Leads, Body 8x8mm, Pitch 0.5mm, Thermal Pad 6.75x6.75mm)
part A pins: 1 ZC_IN (in) "50/60 Hz input for mains zero cross detection", 3 IO3 (io) "General Purpose I/O’s", 4 IO4 (io) "General Purpose I/O’s", 5 IO5 (io) "General Purpose I/O’s", 6 IO0/RX_DATA (io) "Data reception indication (in ROM mode)", 7 TDO (out) "Test data output", 8 TDI (in) "Test data input", 9 TCK (in) "Test clock", 10 TMS (in) "Test mode select", 11 TRSTB (in) "Test reset bar (active low)", 12 IO6 (io) "General Purpose I/O’s", 13 IO8 (io) "General Purpose I/O’s", 14 IO7 (io) "General Purpose I/O’s", 15 EXT_CLK_E (in) "External Clock Enable input", 16 TXD/PRES (out) "Output of transmitted data (TXD) or PRE_SLOT signal (PRES)", 17 XIN (in) "Xtal input (can be driven by an internal clock)", 18 XOUT "Xtal output (output floating when XIN driven by external clock)", 19 VDD1V8 (power) "1V8 regulator output. Foresee a decoupling capacitor", 20 VSS (power) "Digital ground", 21 VDD (power) "3.3V digital supply", 22 TXD (oc) "SCI transmit output", 23 IO9 (io) "General Purpose I/O’s", 24 RXD (in) "SCI receive input (Schmitt trigger input)", 25 SCK (out) "SPI interface external Flash", 26 SDI (in) "SPI interface external Flash (Schmitt trigger input)", 27 SDO (out) "SPI interface external Flash", 28 CSB (in) "SPI interface external Flash (Schmitt trigger input)", 29 IO2/T_REQ (io) "Transmit Request input (in ROM mode)", 30 SEN (in) "SPI interface Enable external Flash", 31 BR1 (in) "SCI baud rate selection", 32 BR0 (in) "SCI baud rate selection", 33 IO1/CRC (io) "Correct frame CRC indication (in ROM mode)", 35 RESB (in) "Master reset bar (Schmitt trigger input, active low)", 36 TEST (in) "Hardware Test enable (Schmitt trigger input)", 37 TX_ENB (oc) "TX enable (active low)", 42 TX_OUT (out) "Transmitter output", 43 ALC_IN (in) "Automatic level control input", 46 VDDA (power) "3.3V analog supply", 47 VSSA (power) "Analog ground", 48 RX_OUT (out) "Output of receiver low noise operational amplifier", 49 RX_IN (in) "Positive input of receiver low noise operational amplifier", 51 REF_OUT (out) "Reference output for stabilization", 53 EP
part B pins: 2 NC "Pins 2, 34, 38..41, 44, 45, 50, 52 are not connected. These pins need to be left open or connected to the GND plane.", 34 NC "Pins 2, 34, 38..41, 44, 45, 50, 52 are not connected. These pins need to be left open or connected to the GND plane.", 38 NC "Pins 2, 34, 38..41, 44, 45, 50, 52 are not connected. These pins need to be left open or connected to the GND plane.", 39 NC "Pins 2, 34, 38..41, 44, 45, 50, 52 are not connected. These pins need to be left open or connected to the GND plane.", 40 NC "Pins 2, 34, 38..41, 44, 45, 50, 52 are not connected. These pins need to be left open or connected to the GND plane.", 41 NC "Pins 2, 34, 38..41, 44, 45, 50, 52 are not connected. These pins need to be left open or connected to the GND plane.", 44 NC "Pins 2, 34, 38..41, 44, 45, 50, 52 are not connected. These pins need to be left open or connected to the GND plane.", 45 NC "Pins 2, 34, 38..41, 44, 45, 50, 52 are not connected. These pins need to be left open or connected to the GND plane.", 50 NC "Pins 2, 34, 38..41, 44, 45, 50, 52 are not connected. These pins need to be left open or connected to the GND plane.", 52 NC "Pins 2, 34, 38..41, 44, 45, 50, 52 are not connected. These pins need to be left open or connected to the GND plane."

## NCN49597MNRG
designator U?
Power Line Carrier Modem, 3 to 3.6 V, -40 to 115 degC, 52-Pin QFN, Pb-Free, Tape and Reel; Manufacturer: On Semiconductor; PartNumber: NCN49597MNRG; Data Transmission Standard: S-FSK; Number of Drivers: 1; VCC Max (V): 3.6; VCC Min (V): 3; DatasheetVersion: Rev. 1; PackageVersion: Rev. C, 02/2010; PackageReference: QFN-52-485M-01; PackageDescription: 52-Pin Quad Flat No-Lead, Body 8 x 8 mm, Pitch 0.5 mm; Number of Receivers: 1; Packing: Tape and Reel; RoHS: TRUE; Mounting Technology: Surface Mount; ComponentLink1Description: Manufacturer URL; ComponentLink1URL: http://www.onsemi.com/; ComponentLink2Description: Datasheet; ComponentLink2URL: http://www.onsemi.com/pub_link/Collateral/NCN49597-D.PDF; ComponentLink3Description: Package Specification; ComponentLink3URL: http://www.onsemi.com/pub_link/Collateral/485M.PDF
footprint ONSC-QFN-52-485M-01_V (QFN, 52-Leads, Body 8x8mm, Pitch 0.5mm, Thermal Pad 6.75x6.75mm)
part A pins: 1 ZC_IN (in) "50/60 Hz input for mains zero cross detection", 3 IO3 (io) "General Purpose I/O’s", 4 IO4 (io) "General Purpose I/O’s", 5 IO5 (io) "General Purpose I/O’s", 6 IO0/RX_DATA (io) "Data reception indication (in ROM mode)", 7 TDO (out) "Test data output", 8 TDI (in) "Test data input", 9 TCK (in) "Test clock", 10 TMS (in) "Test mode select", 11 TRSTB (in) "Test reset bar (active low)", 12 IO6 (io) "General Purpose I/O’s", 13 IO8 (io) "General Purpose I/O’s", 14 IO7 (io) "General Purpose I/O’s", 15 EXT_CLK_E (in) "External Clock Enable input", 16 TXD/PRES (out) "Output of transmitted data (TXD) or PRE_SLOT signal (PRES)", 17 XIN (in) "Xtal input (can be driven by an internal clock)", 18 XOUT "Xtal output (output floating when XIN driven by external clock)", 19 VDD1V8 (power) "1V8 regulator output. Foresee a decoupling capacitor", 20 VSS (power) "Digital ground", 21 VDD (power) "3.3V digital supply", 22 TXD (oc) "SCI transmit output", 23 IO9 (io) "General Purpose I/O’s", 24 RXD (in) "SCI receive input (Schmitt trigger input)", 25 SCK (out) "SPI interface external Flash", 26 SDI (in) "SPI interface external Flash (Schmitt trigger input)", 27 SDO (out) "SPI interface external Flash", 28 CSB (in) "SPI interface external Flash (Schmitt trigger input)", 29 IO2/T_REQ (io) "Transmit Request input (in ROM mode)", 30 SEN (in) "SPI interface Enable external Flash", 31 BR1 (in) "SCI baud rate selection", 32 BR0 (in) "SCI baud rate selection", 33 IO1/CRC (io) "Correct frame CRC indication (in ROM mode)", 35 RESB (in) "Master reset bar (Schmitt trigger input, active low)", 36 TEST (in) "Hardware Test enable (Schmitt trigger input)", 37 TX_ENB (oc) "TX enable (active low)", 42 TX_OUT (out) "Transmitter output", 43 ALC_IN (in) "Automatic level control input", 46 VDDA (power) "3.3V analog supply", 47 VSSA (power) "Analog ground", 48 RX_OUT (out) "Output of receiver low noise operational amplifier", 49 RX_IN (in) "Positive input of receiver low noise operational amplifier", 51 REF_OUT (out) "Reference output for stabilization", 53 EP
part B pins: 2 NC "Pins 2, 34, 38..41, 44, 45, 50, 52 are not connected. These pins need to be left open or connected to the GND plane.", 34 NC "Pins 2, 34, 38..41, 44, 45, 50, 52 are not connected. These pins need to be left open or connected to the GND plane.", 38 NC "Pins 2, 34, 38..41, 44, 45, 50, 52 are not connected. These pins need to be left open or connected to the GND plane.", 39 NC "Pins 2, 34, 38..41, 44, 45, 50, 52 are not connected. These pins need to be left open or connected to the GND plane.", 40 NC "Pins 2, 34, 38..41, 44, 45, 50, 52 are not connected. These pins need to be left open or connected to the GND plane.", 41 NC "Pins 2, 34, 38..41, 44, 45, 50, 52 are not connected. These pins need to be left open or connected to the GND plane.", 44 NC "Pins 2, 34, 38..41, 44, 45, 50, 52 are not connected. These pins need to be left open or connected to the GND plane.", 45 NC "Pins 2, 34, 38..41, 44, 45, 50, 52 are not connected. These pins need to be left open or connected to the GND plane.", 50 NC "Pins 2, 34, 38..41, 44, 45, 50, 52 are not connected. These pins need to be left open or connected to the GND plane.", 52 NC "Pins 2, 34, 38..41, 44, 45, 50, 52 are not connected. These pins need to be left open or connected to the GND plane."

## NCN49599MNG
designator U?
Power Line Carrier Modem, -40 to 85 degC, 56-Pin QFN, Pb-Free, Tube; Manufacturer: On Semiconductor; PartNumber: NCN49599MNG; Data Transmission Standard: S-FSK; Number of Drivers: 1; DatasheetVersion: Rev. P0; PackageVersion: Rev. O, 06/2012; PackageReference: QFN-56-485CN; PackageDescription: 56-Pin Quad Flat No-Lead, Body 8 x 8 mm, Pitch 0.5 mm; Supplier 1: Newark; Supplier Part Number 1: 60W1664; Supplier 2: Mouser; Supplier Part Number 2: 863-NCN49599MNG; Number of Receivers: 1; Packing: Tube; RoHS: TRUE; Mounting Technology: Surface Mount; ComponentLink1Description: Manufacturer URL; ComponentLink1URL: http://www.onsemi.com/; ComponentLink2Description: Datasheet; ComponentLink2URL: http://www.onsemi.com/pub_link/Collateral/NCN49599-D.PDF; ComponentLink3Description: Package Specification; ComponentLink3URL: http://www.onsemi.com/pub_link/Collateral/485CN.PDF
footprint ONSC-QFN-56-485CN_V (QFN, 56-Leads, Body 8x8mm, Pitch 0.5mm, Thermal Pad 6.74x6.74mm)
part A pins: 1 B- (in) "Negative (-) input of operational amplifier B", 2 B+ (in) "Positive (+) input of operational amplifier B", 4 RLIM (in) "Output B current limit set resistor", 5 ILIM (out) "Current limit logic flag", 8 IO3 (io) "General Purpose I/O抯", 9 IO4 (io) "General Purpose I/O抯", 10 IO5 (io) "General Purpose I/O抯", 11 IO0/RX_DATA (io) "General Purpose I/O抯", 12 TDO (out) "Test data output", 13 TDI (in) "Test data input", 14 TCK (in) "Test clock", 15 TMS (in) "Test mode select", 16 TRSTB (in) "Test reset bar (active low)", 17 IO6 (io) "General Purpose I/O抯", 18 IO7 (io) "General Purpose I/O抯", 19 EXT_CLK_EN (in) "External Clock Enable input", 20 TXD/PRES (out) "Output of transmitted data (TXD) or PRE_SLOT signal (PRES)", 21 XIN (in) "Xtal input (can be driven by an external clock)", 22 XOUT "Xtal output (output floating when XIN driven by external (clock)", 26 TXD (oc) "SCI transmit output", 27 RXD (in) "SCI receive input (Schmitt trigger input)", 28 SCK (out) "SPI interface external Flash", 29 SDI (in) "SPI interface external Flash (Schmitt trigger input)", 30 SDO (out) "SPI interface external Flash", 31 CSB (in) "SPI interface external Flash (Schmitt trigger input)", 32 IO2/T_REQ (io) "General Purpose I/O抯", 33 SEN (in) "SPI interface Enable external Flash", 34 BR1 (in) "SCI baud rate selection", 35 BR0 (in) "SCI baud rate selection", 36 IO1/CRC (io) "General Purpose I/O抯", 37 RESB (in) "Master reset bar (Schmitt trigger input, active low)", 38 TEST (in) "Hardware Test enable (Schmitt trigger input)", 39 TX_ENB (oc) "TX enable (active low)", 40 NC "Not connected pin. Tie to GND.", 41 TX_OUT (out) "Transmitter output", 42 ALC_IN (in) "Automatic level control input", 45 RX_OUT (out) "Output of receiver low noise operational amplifier", 46 RX_IN (in) "Positive input of receiver low noise operational amplifier", 47 REF_OUT (out) "Reference output for stabilization", 48 ZC_IN (in) "50/60 Hz input for mains zero cross detection", 49 ENB (in) "Enable / shutdown power amplifier (active low)", 50 A+ (in) "Positive (+) input of operational amplifier A", 51 A- (in) "Negative (-) input of operational amplifier A", 52 A_OUT (hiz) "Output of operational amplifier A", 54 B_OUT1 (hiz) "Output of operational amplifier B", 55 B_OUT2 (hiz) "Output of operational amplifier B"
part B pins: 3 VEE (power) "Negative supply for power amplifiers A and B", 6 VDD (power) "3.3V digital supply", 7 VSS (power) "Digital ground", 23 VDD1V8 (power) "1V8 regulator output. Foresee a decoupling capacitor", 24 VSS (power) "Digital ground", 25 VDD (power) "3.3V digital supply", 43 VDDA (power) "3.3V analog supply", 44 VSSA (power) "Analog ground", 53 VCC (power) "Positive supply for power amplifiers A and B", 56 VEE (power) "Negative supply for power amplifiers A and B", 57 EP

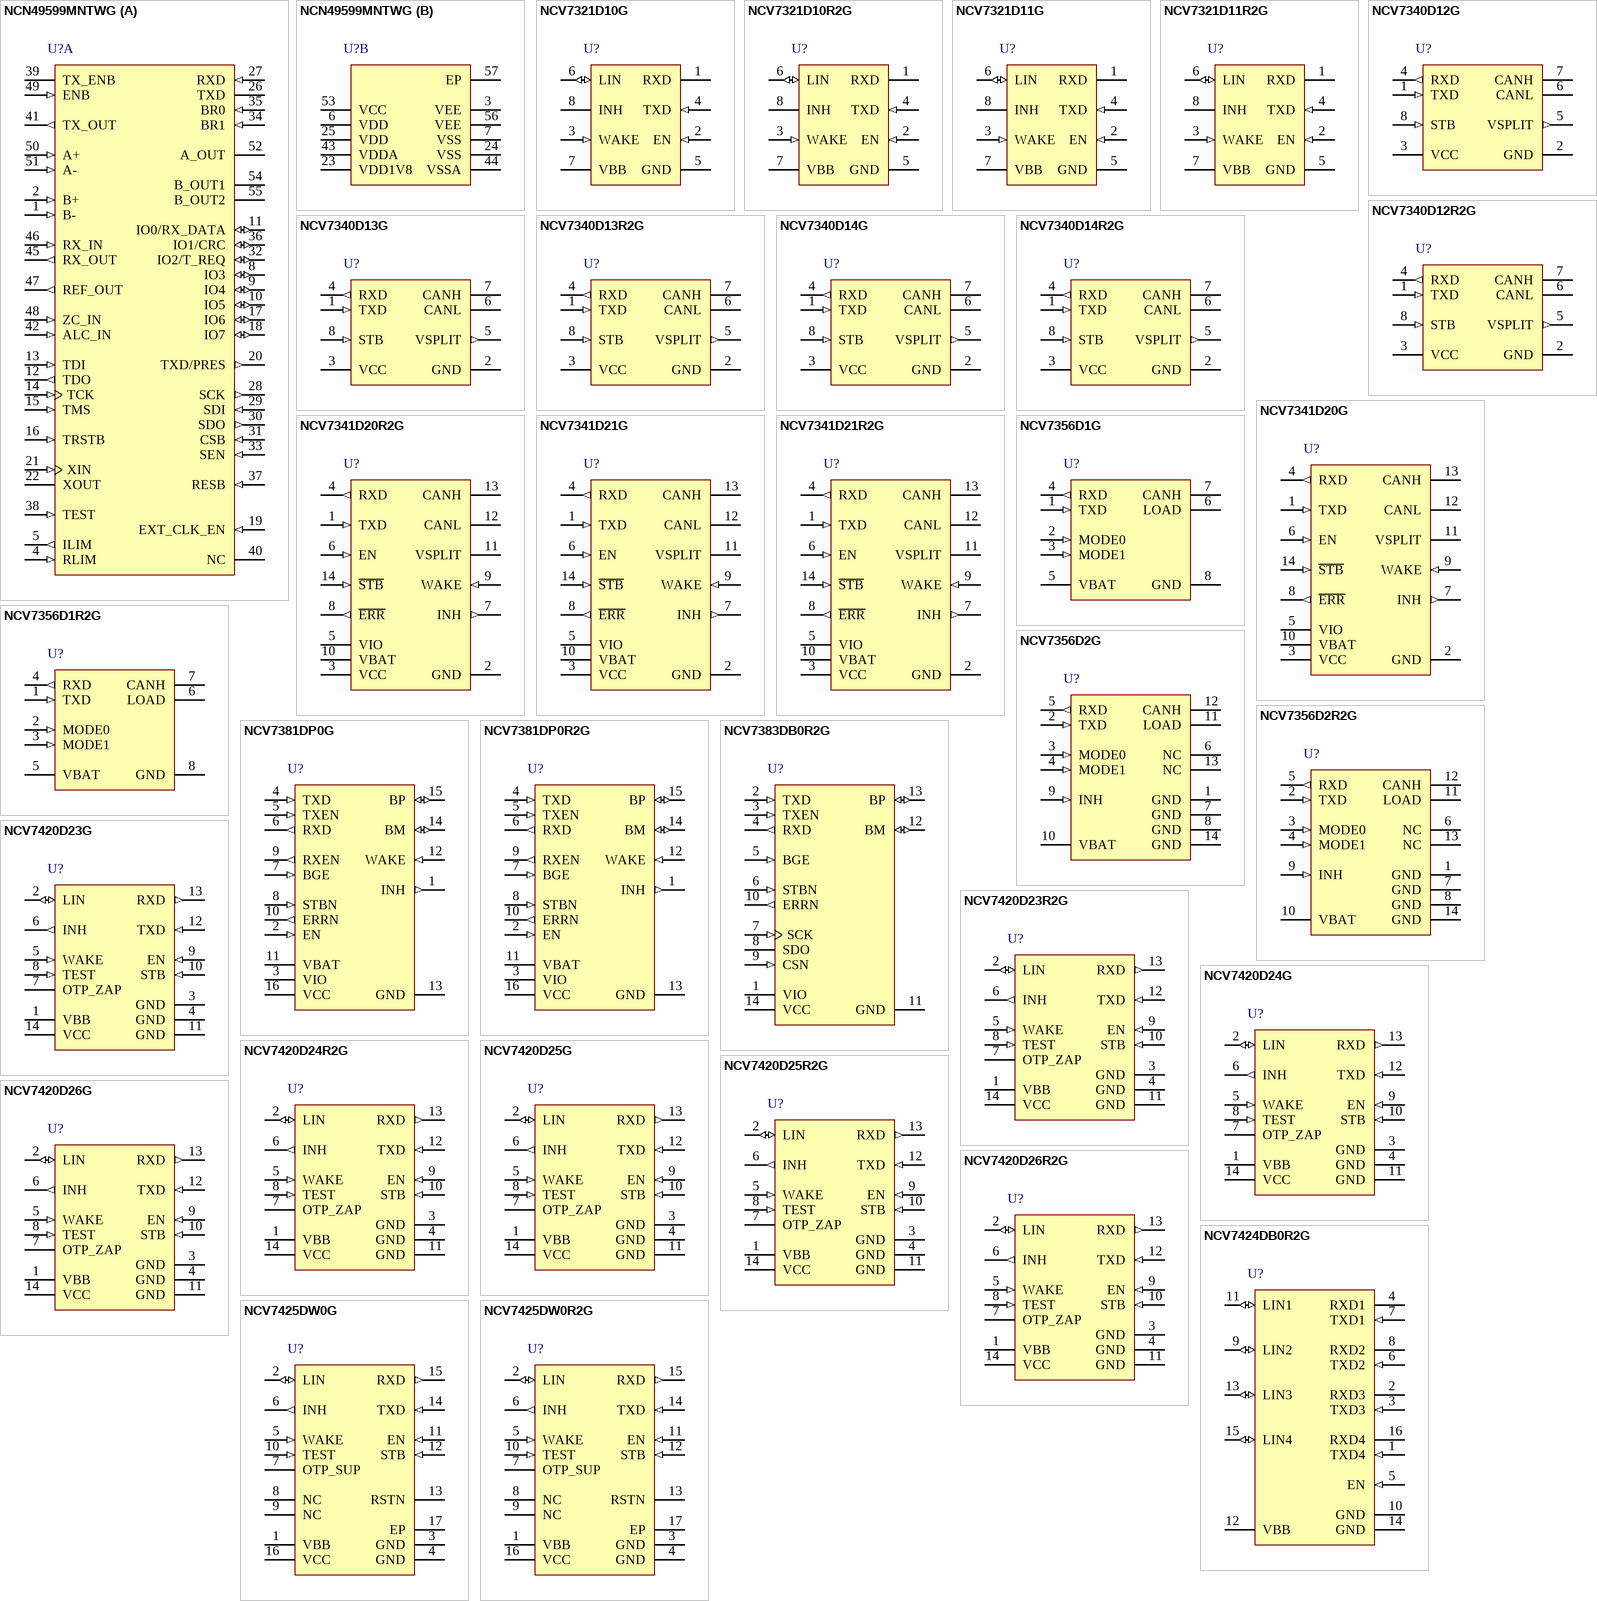
[diagram p3: symbols NCN49599MNTWG to NCV7425DW0R2G]

## NCN49599MNTWG
designator U?
Power Line Carrier Modem, -40 to 85 degC, 56-Pin QFN, Pb-Free, Tape and Reel; Manufacturer: On Semiconductor; PartNumber: NCN49599MNTWG; Data Transmission Standard: S-FSK; Number of Drivers: 1; DatasheetVersion: Rev. P0; PackageVersion: Rev. O, 06/2012; PackageReference: QFN-56-485CN; PackageDescription: 56-Pin Quad Flat No-Lead, Body 8 x 8 mm, Pitch 0.5 mm; Supplier 1: Mouser; Supplier Part Number 1: 863-NCN49599MNTWG; Number of Receivers: 1; Packing: Tape and Reel; RoHS: TRUE; Mounting Technology: Surface Mount; ComponentLink1Description: Manufacturer URL; ComponentLink1URL: http://www.onsemi.com/; ComponentLink2Description: Datasheet; ComponentLink2URL: http://www.onsemi.com/pub_link/Collateral/NCN49599-D.PDF; ComponentLink3Description: Package Specification; ComponentLink3URL: http://www.onsemi.com/pub_link/Collateral/485CN.PDF
footprint ONSC-QFN-56-485CN_V (QFN, 56-Leads, Body 8x8mm, Pitch 0.5mm, Thermal Pad 6.74x6.74mm)
part A pins: 1 B- (in) "Negative (-) input of operational amplifier B", 2 B+ (in) "Positive (+) input of operational amplifier B", 4 RLIM (in) "Output B current limit set resistor", 5 ILIM (out) "Current limit logic flag", 8 IO3 (io) "General Purpose I/O抯", 9 IO4 (io) "General Purpose I/O抯", 10 IO5 (io) "General Purpose I/O抯", 11 IO0/RX_DATA (io) "General Purpose I/O抯", 12 TDO (out) "Test data output", 13 TDI (in) "Test data input", 14 TCK (in) "Test clock", 15 TMS (in) "Test mode select", 16 TRSTB (in) "Test reset bar (active low)", 17 IO6 (io) "General Purpose I/O抯", 18 IO7 (io) "General Purpose I/O抯", 19 EXT_CLK_EN (in) "External Clock Enable input", 20 TXD/PRES (out) "Output of transmitted data (TXD) or PRE_SLOT signal (PRES)", 21 XIN (in) "Xtal input (can be driven by an external clock)", 22 XOUT "Xtal output (output floating when XIN driven by external (clock)", 26 TXD (oc) "SCI transmit output", 27 RXD (in) "SCI receive input (Schmitt trigger input)", 28 SCK (out) "SPI interface external Flash", 29 SDI (in) "SPI interface external Flash (Schmitt trigger input)", 30 SDO (out) "SPI interface external Flash", 31 CSB (in) "SPI interface external Flash (Schmitt trigger input)", 32 IO2/T_REQ (io) "General Purpose I/O抯", 33 SEN (in) "SPI interface Enable external Flash", 34 BR1 (in) "SCI baud rate selection", 35 BR0 (in) "SCI baud rate selection", 36 IO1/CRC (io) "General Purpose I/O抯", 37 RESB (in) "Master reset bar (Schmitt trigger input, active low)", 38 TEST (in) "Hardware Test enable (Schmitt trigger input)", 39 TX_ENB (oc) "TX enable (active low)", 40 NC "Not connected pin. Tie to GND.", 41 TX_OUT (out) "Transmitter output", 42 ALC_IN (in) "Automatic level control input", 45 RX_OUT (out) "Output of receiver low noise operational amplifier", 46 RX_IN (in) "Positive input of receiver low noise operational amplifier", 47 REF_OUT (out) "Reference output for stabilization", 48 ZC_IN (in) "50/60 Hz input for mains zero cross detection", 49 ENB (in) "Enable / shutdown power amplifier (active low)", 50 A+ (in) "Positive (+) input of operational amplifier A", 51 A- (in) "Negative (-) input of operational amplifier A", 52 A_OUT (hiz) "Output of operational amplifier A", 54 B_OUT1 (hiz) "Output of operational amplifier B", 55 B_OUT2 (hiz) "Output of operational amplifier B"
part B pins: 3 VEE (power) "Negative supply for power amplifiers A and B", 6 VDD (power) "3.3V digital supply", 7 VSS (power) "Digital ground", 23 VDD1V8 (power) "1V8 regulator output. Foresee a decoupling capacitor", 24 VSS (power) "Digital ground", 25 VDD (power) "3.3V digital supply", 43 VDDA (power) "3.3V analog supply", 44 VSSA (power) "Analog ground", 53 VCC (power) "Positive supply for power amplifiers A and B", 56 VEE (power) "Negative supply for power amplifiers A and B", 57 EP

## NCV7321D10G
designator U?
Stand-Alone LIN Transceiver, -40 to 125 degC, 8-Pin SOIC, Pb-Free, Tube; Manufacturer: On Semiconductor; PartNumber: NCV7321D10G; Data Rate: 20 kbaud; Number of Drivers: 1; DatasheetVersion: Rev. 11; PackageVersion: Rev. AK, 02/2011; PackageReference: SOIC-8-751-07; PackageDescription: 8-Pin Small Outline Integrated Circuit, Body 4.9 x 3.9 mm, Pitch 1.27 mm; Supplier 1: Digi-Key; Supplier Part Number 1: NCV7321D10G-ND; Supplier 2: Mouser; Supplier Part Number 2: 863-NCV7321D10G; Data Transmission Standard: LIN; Number of Receivers: 1; Packing: Tube; RoHS: TRUE; Mounting Technology: Surface Mount; ComponentLink1Description: Manufacturer URL; ComponentLink1URL: http://www.onsemi.com/; ComponentLink2Description: Datasheet; ComponentLink2URL: http://www.onsemi.com/pub_link/Collateral/NCV7321-D.PDF; ComponentLink3Description: Package Specification; ComponentLink3URL: http://www.onsemi.com/pub_link/Collateral/751-07.PDF
footprint ONSC-SOIC-8-751-07_V (SOIC, 8-Leads, Body 4.9x3.9mm, Pitch 1.27mm)
pins: 1 RXD (oc) "Receive Data Output; Low in Dominant State; Open-Drain Output", 2 EN (in) "Enable Input, Transceiver in Normal Operation Mode when High, Pull-down Resistor to GND", 3 WAKE (in) "High Voltage Digital Input Pin to Apply Local Wake-up, Sensitive to Falling Edge, Pull-up Current Source to VBB", 4 TXD (in) "Transmit Data Input, Low for Dominant State, Pull-down to GND (Switchable Strength for Wake-up Source Recognition)", 5 GND (power) "Ground", 6 LIN (io) "LIN Bus Output/Input", 7 VBB (power) "Battery Supply Input", 8 INH (oc) "Inhibit Output, Switch Between INH and VBB can be Used to Control External Regulator or Pull-up Resistor on LIN Bus"